# EAGLE library part VNC2-48 (library X893)
http://www.ftdichip.com/Support/Documents/DataSheets/ICs/DS_Vinculum-II.pdf
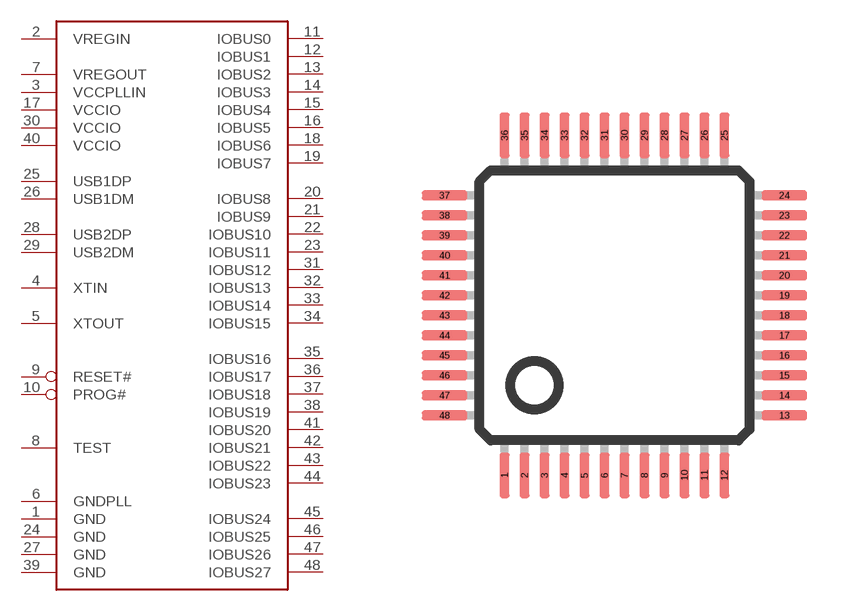
[diagram p96: symbol with the pads of LQFP48; footprint LQFP48]

Designator prefix -

## VNC2-48L1  [LQFP48]
1  GND  sup
2  VREGIN  pwr
3  VCCPLLIN  pwr
4  XTIN  in
5  XTOUT  out
6  GNDPLL  sup
7  VREGOUT  pwr
8  TEST  in
9  RESET#  in
10  PROG#  in
11  IOBUS0
12  IOBUS1
13  IOBUS2
14  IOBUS3
15  IOBUS4
16  IOBUS5
17  VCCIO  pwr
18  IOBUS6
19  IOBUS7
20  IOBUS8
21  IOBUS9
22  IOBUS10
23  IOBUS11
24  GND  sup
25  USB1DP
26  USB1DM
27  GND  sup
28  USB2DP
29  USB2DM
30  VCCIO  pwr
31  IOBUS12
32  IOBUS13
33  IOBUS14
34  IOBUS15
35  IOBUS16
36  IOBUS17
37  IOBUS18
38  IOBUS19
39  GND  sup
40  VCCIO  pwr
41  IOBUS20
42  IOBUS21
43  IOBUS22
44  IOBUS23
45  IOBUS24
46  IOBUS25
47  IOBUS26
48  IOBUS27

## Footprint LQFP48 (pad centres in mm)
smd 0.254 x 1.143: 1 -2.75,-4.25; 2 -2.25,-4.25; 3 -1.75,-4.25; 4 -1.25,-4.25; 5 -0.75,-4.25; 6 -0.25,-4.25; 7 0.25,-4.25; 8 0.75,-4.25; 9 1.25,-4.25; 10 1.75,-4.25; 11 2.25,-4.25; 12 2.75,-4.25; 25 2.75,4.25; 26 2.25,4.25; 27 1.75,4.25; 28 1.25,4.25; 29 0.75,4.25; 30 0.25,4.25; 31 -0.25,4.25; 32 -0.75,4.25; 33 -1.25,4.25; 34 -1.75,4.25; 35 -2.25,4.25; 36 -2.75,4.25
smd 1.143 x 0.254: 13 4.25,-2.75; 14 4.25,-2.25; 15 4.25,-1.75; 16 4.25,-1.25; 17 4.25,-0.75; 18 4.25,-0.25; 19 4.25,0.25; 20 4.25,0.75; 21 4.25,1.25; 22 4.25,1.75; 23 4.25,2.25; 24 4.25,2.75; 37 -4.25,2.75; 38 -4.25,2.25; 39 -4.25,1.75; 40 -4.25,1.25; 41 -4.25,0.75; 42 -4.25,0.25; 43 -4.25,-0.25; 44 -4.25,-0.75; 45 -4.25,-1.25; 46 -4.25,-1.75; 47 -4.25,-2.25; 48 -4.25,-2.75